# Altium footprint library WR-CIRCM12.PcbLib: 41 footprints (part 1 of 3)
Each footprint in its own frame and in the unit in brackets; x right, y up, seen from the top. Pads: shape width x height; smd on the part's side, far side on the other; paste and mask are expansions set on the pad; w line width, h text height; cw(c..) or ccw(c..) is an arc to the next point about the centre after c.
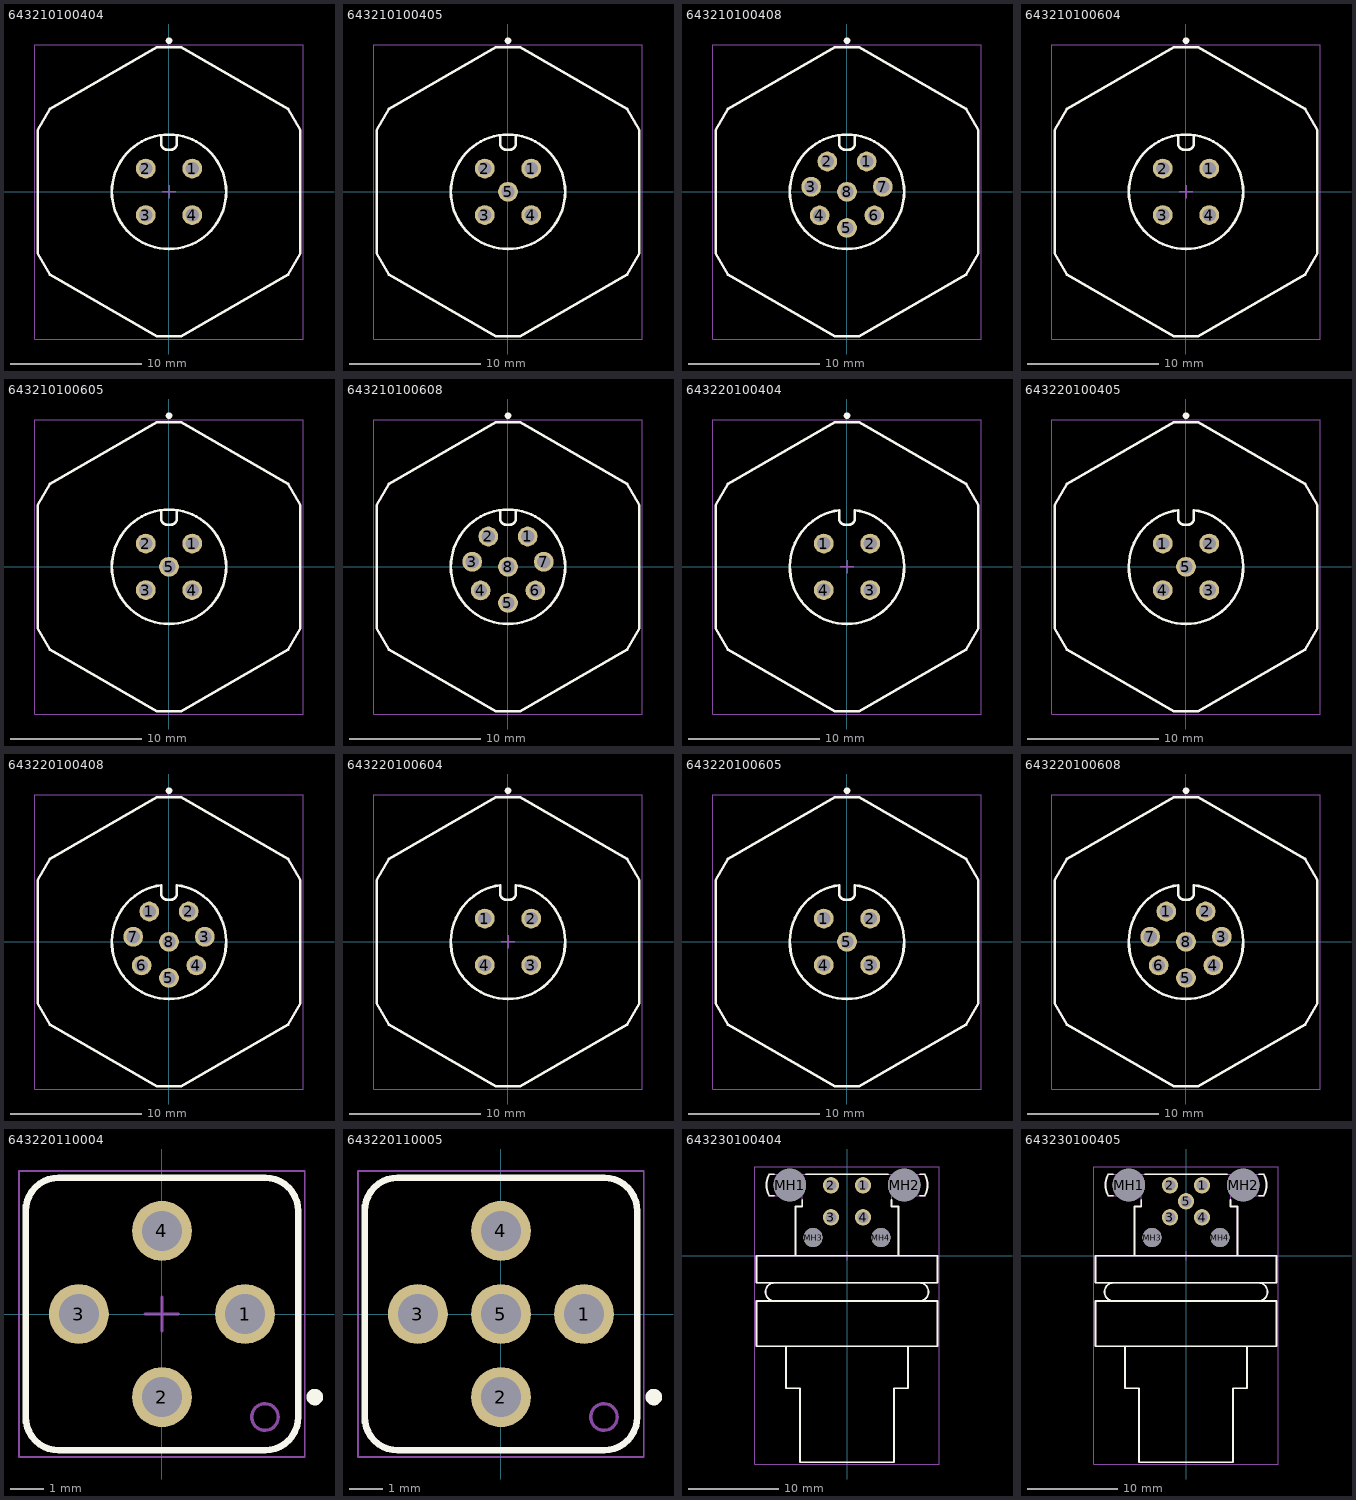
[diagram p0: the footprints below, top view; thin cyan lines are the x and y axes]

## 643210100404 [mm] "M12 Screw - Coding A -  Panel PCB"
height 22.8
pads (4):
  round 1.5 hole 1: 1(1.768,1.768) 2(-1.768,1.768) 3(-1.768,-1.768) 4(1.768,-1.768)
Top Overlay:
  circle w0.25: c0,11.5 r0.125
  circle w0.2: c0,0 r4.35
  lines w0.2: -0.945,-11 0.945,-11 ; -0.945,11 0.945,11 ; -0.94,-11 -9.05,-6.32 -10,-4.68 -10,4.68 -9.05,6.32 -0.94,11 ; -0.6,4.29 -0.6,3.69 ccw(c-0.1,3.69) -0.1,3.19 0.1,3.19 ccw(c0.1,3.69) 0.6,3.69 0.6,4.29 ; 0.94,-11 9.05,-6.32 10,-4.68 10,4.68 9.05,6.32 0.94,11
Top Assembly:
  circle w0.1: c0,0 r4.35
  lines w0.1: -0.945,-11 0.945,-11 ; -0.945,11 0.945,11 ; -0.94,-11 -9.05,-6.32 -10,-4.68 -10,4.68 -9.05,6.32 -0.94,11 ; -0.6,4.29 -0.6,3.69 ccw(c-0.1,3.69) -0.1,3.19 0.1,3.19 ccw(c0.1,3.69) 0.6,3.69 0.6,4.29 ; 0.94,-11 9.05,-6.32 10,-4.68 10,4.68 9.05,6.32 0.94,11
Top Designator:
  text ".Designator" at -3.647,-0.357 h1
Top 3D Body:
  circle w0.1: c0,0 r4.35
  lines w0.1: -0.945,-11 0.945,-11 ; -0.945,11 0.945,11 ; -0.94,-11 -9.05,-6.32 -10,-4.68 -10,4.68 -9.05,6.32 -0.94,11 ; -0.6,4.29 -0.6,3.69 ccw(c-0.1,3.69) -0.1,3.19 0.1,3.19 ccw(c0.1,3.69) 0.6,3.69 0.6,4.29 ; 0.94,-11 9.05,-6.32 10,-4.68 10,4.68 9.05,6.32 0.94,11
Top Courtyard:
  lines w0.05: -10.2,-11.2 10.2,-11.2 10.2,11.2 -10.2,11.2 -10.2,-11.2
Top Component Center:
  lines w0.1: -0.5,0 0.5,0 ; 0,-0.5 0,0.5
3D body "643210100404.stp": height 25.95, standoff -2.85, extent -10,-11.011 10,11.011

## 643210100405 [mm] "M12 Screw - Coding A -  Panel PCB"
height 22.8
pads (5):
  round 1.5 hole 1: 1(1.768,1.768) 2(-1.768,1.768) 3(-1.768,-1.768) 4(1.768,-1.768) 5(0,0)
Top Overlay:
  circle w0.25: c0,11.5 r0.125
  circle w0.2: c0,0 r4.35
  lines w0.2: -0.945,-11 0.945,-11 ; -0.945,11 0.945,11 ; -0.94,-11 -9.05,-6.32 -10,-4.68 -10,4.68 -9.05,6.32 -0.94,11 ; -0.6,4.29 -0.6,3.69 ccw(c-0.1,3.69) -0.1,3.19 0.1,3.19 ccw(c0.1,3.69) 0.6,3.69 0.6,4.29 ; 0.94,-11 9.05,-6.32 10,-4.68 10,4.68 9.05,6.32 0.94,11
Top Assembly:
  circle w0.1: c0,0 r4.35
  lines w0.1: -0.945,-11 0.945,-11 ; -0.945,11 0.945,11 ; -0.94,-11 -9.05,-6.32 -10,-4.68 -10,4.68 -9.05,6.32 -0.94,11 ; -0.6,4.29 -0.6,3.69 ccw(c-0.1,3.69) -0.1,3.19 0.1,3.19 ccw(c0.1,3.69) 0.6,3.69 0.6,4.29 ; 0.94,-11 9.05,-6.32 10,-4.68 10,4.68 9.05,6.32 0.94,11
Top Designator:
  text ".Designator" at -3.647,-0.357 h1
Top 3D Body:
  circle w0.1: c0,0 r4.35
  lines w0.1: -0.945,-11 0.945,-11 ; -0.945,11 0.945,11 ; -0.94,-11 -9.05,-6.32 -10,-4.68 -10,4.68 -9.05,6.32 -0.94,11 ; -0.6,4.29 -0.6,3.69 ccw(c-0.1,3.69) -0.1,3.19 0.1,3.19 ccw(c0.1,3.69) 0.6,3.69 0.6,4.29 ; 0.94,-11 9.05,-6.32 10,-4.68 10,4.68 9.05,6.32 0.94,11
Top Courtyard:
  lines w0.05: -10.2,-11.2 10.2,-11.2 10.2,11.2 -10.2,11.2 -10.2,-11.2
Top Component Center:
  lines w0.1: -0.5,0 0.5,0 ; 0,-0.5 0,0.5
3D body "643210100405.stp": height 25.95, standoff -2.85, extent -10,-11.011 10,11.011

## 643210100408 [mm] "M12 Screw - Coding A -  Panel PCB"
height 22.8
pads (8):
  round 1.5 hole 1: 1(1.498,2.306) 2(-1.498,2.306) 3(-2.723,0.383) 4(-2.08,-1.8) 5(0,-2.75) 6(2.08,-1.8) 7(2.723,0.383) 8(0,0)
Top Overlay:
  circle w0.2: c0,0 r4.35
  circle w0.25: c0,11.5 r0.125
  lines w0.2: -0.945,-11 0.945,-11 ; -0.945,11 0.945,11 ; -0.94,-11 -9.05,-6.32 -10,-4.68 -10,4.68 -9.05,6.32 -0.94,11 ; -0.6,4.29 -0.6,3.69 ccw(c-0.1,3.69) -0.1,3.19 0.1,3.19 ccw(c0.1,3.69) 0.6,3.69 0.6,4.29 ; 0.94,-11 9.05,-6.32 10,-4.68 10,4.68 9.05,6.32 0.94,11
Top Assembly:
  circle w0.1: c0,0 r4.35
  lines w0.1: -0.945,-11 0.945,-11 ; -0.945,11 0.945,11 ; -0.94,-11 -9.05,-6.32 -10,-4.68 -10,4.68 -9.05,6.32 -0.94,11 ; -0.6,4.29 -0.6,3.69 ccw(c-0.1,3.69) -0.1,3.19 0.1,3.19 ccw(c0.1,3.69) 0.6,3.69 0.6,4.29 ; 0.94,-11 9.05,-6.32 10,-4.68 10,4.68 9.05,6.32 0.94,11
Top Designator:
  text ".Designator" at -3.647,-0.357 h1
Top 3D Body:
  circle w0.1: c0,0 r4.35
  lines w0.1: -0.945,-11 0.945,-11 ; -0.945,11 0.945,11 ; -0.94,-11 -9.05,-6.32 -10,-4.68 -10,4.68 -9.05,6.32 -0.94,11 ; -0.6,4.29 -0.6,3.69 ccw(c-0.1,3.69) -0.1,3.19 0.1,3.19 ccw(c0.1,3.69) 0.6,3.69 0.6,4.29 ; 0.94,-11 9.05,-6.32 10,-4.68 10,4.68 9.05,6.32 0.94,11
Top Courtyard:
  lines w0.05: -10.2,-11.2 10.2,-11.2 10.2,11.2 -10.2,11.2 -10.2,-11.2
Top Component Center:
  lines w0.1: -0.5,0 0.5,0 ; 0,-0.5 0,0.5
3D body "643210100408.stp": height 25.95, standoff -2.85, extent -10,-11.011 10,11.011

## 643210100604 [mm] "M12 Screw - Coding A -  Panel PCB"
height 22.8
pads (4):
  round 1.5 hole 1: 1(1.768,1.768) 2(-1.768,1.768) 3(-1.768,-1.768) 4(1.768,-1.768)
Top Overlay:
  circle w0.25: c0,11.5 r0.125
  circle w0.2: c0,0 r4.35
  lines w0.2: -0.945,-11 0.945,-11 ; -0.945,11 0.945,11 ; -0.94,-11 -9.05,-6.32 -10,-4.68 -10,4.68 -9.05,6.32 -0.94,11 ; -0.6,4.29 -0.6,3.69 ccw(c-0.1,3.69) -0.1,3.19 0.1,3.19 ccw(c0.1,3.69) 0.6,3.69 0.6,4.29 ; 0.94,-11 9.05,-6.32 10,-4.68 10,4.68 9.05,6.32 0.94,11
Top Assembly:
  circle w0.1: c0,0 r4.35
  lines w0.1: -0.945,-11 0.945,-11 ; -0.945,11 0.945,11 ; -0.94,-11 -9.05,-6.32 -10,-4.68 -10,4.68 -9.05,6.32 -0.94,11 ; -0.6,4.29 -0.6,3.69 ccw(c-0.1,3.69) -0.1,3.19 0.1,3.19 ccw(c0.1,3.69) 0.6,3.69 0.6,4.29 ; 0.94,-11 9.05,-6.32 10,-4.68 10,4.68 9.05,6.32 0.94,11
Top Designator:
  text ".Designator" at -3.647,-0.357 h1
Top 3D Body:
  circle w0.1: c0,0 r4.35
  lines w0.1: -0.945,-11 0.945,-11 ; -0.945,11 0.945,11 ; -0.94,-11 -9.05,-6.32 -10,-4.68 -10,4.68 -9.05,6.32 -0.94,11 ; -0.6,4.29 -0.6,3.69 ccw(c-0.1,3.69) -0.1,3.19 0.1,3.19 ccw(c0.1,3.69) 0.6,3.69 0.6,4.29 ; 0.94,-11 9.05,-6.32 10,-4.68 10,4.68 9.05,6.32 0.94,11
Top Courtyard:
  lines w0.05: -10.2,-11.2 -10.2,11.2 10.2,11.2 10.2,-11.2 -10.2,-11.2
Top Component Center:
  lines w0.1: -0.5,0 0.5,0 ; 0,-0.5 0,0.5
3D body "643210100604.stp": height 25.95, standoff -2.85, extent -10.013,-11.011 10,11.011

## 643210100605 [mm] "M12 Screw - Coding A -  Panel PCB"
height 22.8
pads (5):
  round 1.5 hole 1: 1(1.768,1.768) 2(-1.768,1.768) 3(-1.768,-1.768) 4(1.768,-1.768) 5(0,0)
Top Overlay:
  circle w0.2: c0,0 r4.35
  circle w0.25: c0,11.5 r0.125
  lines w0.2: -0.945,-11 0.945,-11 ; -0.945,11 0.945,11 ; -0.94,-11 -9.05,-6.32 -10,-4.68 -10,4.68 -9.05,6.32 -0.94,11 ; -0.6,4.29 -0.6,3.69 ccw(c-0.1,3.69) -0.1,3.19 0.1,3.19 ccw(c0.1,3.69) 0.6,3.69 0.6,4.29 ; 0.94,-11 9.05,-6.32 10,-4.68 10,4.68 9.05,6.32 0.94,11
Top Assembly:
  circle w0.1: c0,0 r4.35
  lines w0.1: -0.945,-11 0.945,-11 ; -0.945,11 0.945,11 ; -0.94,-11 -9.05,-6.32 -10,-4.68 -10,4.68 -9.05,6.32 -0.94,11 ; -0.6,4.29 -0.6,3.69 ccw(c-0.1,3.69) -0.1,3.19 0.1,3.19 ccw(c0.1,3.69) 0.6,3.69 0.6,4.29 ; 0.94,-11 9.05,-6.32 10,-4.68 10,4.68 9.05,6.32 0.94,11
Top Designator:
  text ".Designator" at -3.647,-0.357 h1
Top 3D Body:
  circle w0.1: c0,0 r4.35
  lines w0.1: -0.945,-11 0.945,-11 ; -0.945,11 0.945,11 ; -0.94,-11 -9.05,-6.32 -10,-4.68 -10,4.68 -9.05,6.32 -0.94,11 ; -0.6,4.29 -0.6,3.69 ccw(c-0.1,3.69) -0.1,3.19 0.1,3.19 ccw(c0.1,3.69) 0.6,3.69 0.6,4.29 ; 0.94,-11 9.05,-6.32 10,-4.68 10,4.68 9.05,6.32 0.94,11
Top Courtyard:
  lines w0.05: -10.2,-11.2 -10.2,11.2 10.2,11.2 10.2,-11.2 -10.2,-11.2
Top Component Center:
  lines w0.1: -0.5,0 0.5,0 ; 0,-0.5 0,0.5
3D body "643210100605.stp": height 25.95, standoff -2.85, extent -10.013,-11.011 10,11.011

## 643210100608 [mm] "M12 Screw - Coding A -  Panel PCB"
height 22.8
pads (8):
  round 1.5 hole 1: 1(1.498,2.306) 2(-1.498,2.306) 3(-2.723,0.383) 4(-2.08,-1.8) 5(0,-2.75) 6(2.08,-1.8) 7(2.723,0.383) 8(0,0)
Top Overlay:
  circle w0.25: c0,11.5 r0.125
  circle w0.2: c0,0 r4.35
  lines w0.2: -0.945,-11 0.945,-11 ; -0.945,11 0.945,11 ; -0.94,-11 -9.05,-6.32 -10,-4.68 -10,4.68 -9.05,6.32 -0.94,11 ; -0.6,4.29 -0.6,3.69 ccw(c-0.1,3.69) -0.1,3.19 0.1,3.19 ccw(c0.1,3.69) 0.6,3.69 0.6,4.29 ; 0.94,-11 9.05,-6.32 10,-4.68 10,4.68 9.05,6.32 0.94,11
Top Assembly:
  circle w0.1: c0,0 r4.35
  lines w0.1: -0.945,-11 0.945,-11 ; -0.945,11 0.945,11 ; -0.94,-11 -9.05,-6.32 -10,-4.68 -10,4.68 -9.05,6.32 -0.94,11 ; -0.6,4.29 -0.6,3.69 ccw(c-0.1,3.69) -0.1,3.19 0.1,3.19 ccw(c0.1,3.69) 0.6,3.69 0.6,4.29 ; 0.94,-11 9.05,-6.32 10,-4.68 10,4.68 9.05,6.32 0.94,11
Top Designator:
  text ".Designator" at -3.647,-0.357 h1
Top 3D Body:
  circle w0.1: c0,0 r4.35
  lines w0.1: -0.945,-11 0.945,-11 ; -0.945,11 0.945,11 ; -0.94,-11 -9.05,-6.32 -10,-4.68 -10,4.68 -9.05,6.32 -0.94,11 ; -0.6,4.29 -0.6,3.69 ccw(c-0.1,3.69) -0.1,3.19 0.1,3.19 ccw(c0.1,3.69) 0.6,3.69 0.6,4.29 ; 0.94,-11 9.05,-6.32 10,-4.68 10,4.68 9.05,6.32 0.94,11
Top Courtyard:
  lines w0.05: -10.2,-11.2 10.2,-11.2 10.2,11.2 -10.2,11.2 -10.2,-11.2
Top Component Center:
  lines w0.1: -0.5,0 0.5,0 ; 0,-0.5 0,0.5
3D body "643210100608.stp": height 25.95, standoff -2.85, extent -10.013,-11.011 10,11.011

## 643220100404 [mm] "Serie M Female Plastic Straight Front Simple"
height 22.8
pads (4):
  round 1.5 hole 1: 1(-1.768,1.768) 2(1.768,1.768) 3(1.768,-1.768) 4(-1.768,-1.768)
Top Overlay:
  circle w0.25: c0,11.5 r0.125
  lines w0.2: -0.945,-11 0.945,-11 ; -0.945,11 0.945,11 ; -0.94,-11 -9.05,-6.32 -10,-4.68 -10,4.68 -9.05,6.32 -0.94,11 ; -0.603,4.308 ccw(c0,0) 0.603,4.308 ; -0.6,4.29 -0.6,3.69 ccw(c-0.1,3.69) -0.1,3.19 0.1,3.19 ccw(c0.1,3.69) 0.6,3.69 0.6,4.29 ; 0.94,-11 9.05,-6.32 10,-4.68 10,4.68 9.05,6.32 0.94,11
Top Assembly:
  lines w0.1: -0.945,-11 0.945,-11 ; -0.945,11 0.945,11 ; -0.94,-11 -9.05,-6.32 -10,-4.68 -10,4.68 -9.05,6.32 -0.94,11 ; -0.603,4.308 ccw(c0,0) 0.603,4.308 ; -0.6,4.29 -0.6,3.69 ccw(c-0.1,3.69) -0.1,3.19 0.1,3.19 ccw(c0.1,3.69) 0.6,3.69 0.6,4.29 ; 0.94,-11 9.05,-6.32 10,-4.68 10,4.68 9.05,6.32 0.94,11
Top Designator:
  text ".Designator" at -3.647,-0.357 h1
Top 3D Body:
  lines w0.1: -0.945,-11 0.945,-11 ; -0.945,11 0.945,11 ; -0.94,-11 -9.05,-6.32 -10,-4.68 -10,4.68 -9.05,6.32 -0.94,11 ; -0.603,4.308 ccw(c0,0) 0.603,4.308 ; -0.6,4.29 -0.6,3.69 ccw(c-0.1,3.69) -0.1,3.19 0.1,3.19 ccw(c0.1,3.69) 0.6,3.69 0.6,4.29 ; 0.94,-11 9.05,-6.32 10,-4.68 10,4.68 9.05,6.32 0.94,11
Top Courtyard:
  lines w0.05: -10.2,-11.2 10.2,-11.2 10.2,11.2 -10.2,11.2 -10.2,-11.2
Top Component Center:
  lines w0.1: -0.5,0 0.5,0 ; 0,-0.5 0,0.5
3D body "643220100404.stp": height 23.22, standoff -2.87, extent -10,-10.995 10,10.995

## 643220100405 [mm] "Serie M Female Plastic Straight Front Simple"
height 22.8
pads (5):
  round 1.5 hole 1: 1(-1.768,1.768) 2(1.768,1.768) 3(1.768,-1.768) 4(-1.768,-1.768) 5(0,0)
Top Overlay:
  circle w0.25: c0,11.5 r0.125
  lines w0.2: -0.945,-11 0.945,-11 ; -0.945,11 0.945,11 ; -0.94,-11 -9.05,-6.32 -10,-4.68 -10,4.68 -9.05,6.32 -0.94,11 ; -0.603,4.308 ccw(c0,0) 0.603,4.308 ; -0.6,4.29 -0.6,3.69 ccw(c-0.1,3.69) -0.1,3.19 0.1,3.19 ccw(c0.1,3.69) 0.6,3.69 0.6,4.29 ; 0.94,-11 9.05,-6.32 10,-4.68 10,4.68 9.05,6.32 0.94,11
Top Assembly:
  lines w0.1: -0.945,-11 0.945,-11 ; -0.945,11 0.945,11 ; -0.94,-11 -9.05,-6.32 -10,-4.68 -10,4.68 -9.05,6.32 -0.94,11 ; -0.603,4.308 ccw(c0,0) 0.647,4.302 ; -0.6,4.29 -0.6,3.69 ccw(c-0.1,3.69) -0.1,3.19 0.1,3.19 ccw(c0.1,3.69) 0.6,3.69 0.6,4.29 ; 0.94,-11 9.05,-6.32 10,-4.68 10,4.68 9.05,6.32 0.94,11
Top Designator:
  text ".Designator" at -3.647,-0.357 h1
Top 3D Body:
  lines w0.1: -0.945,-11 0.945,-11 ; -0.945,11 0.945,11 ; -0.94,-11 -9.05,-6.32 -10,-4.68 -10,4.68 -9.05,6.32 -0.94,11 ; -0.603,4.308 ccw(c0,0) 0.647,4.302 ; -0.6,4.29 -0.6,3.69 ccw(c-0.1,3.69) -0.1,3.19 0.1,3.19 ccw(c0.1,3.69) 0.6,3.69 0.6,4.29 ; 0.94,-11 9.05,-6.32 10,-4.68 10,4.68 9.05,6.32 0.94,11
Top Courtyard:
  lines w0.05: -10.2,-11.2 10.2,-11.2 10.2,11.2 -10.2,11.2 -10.2,-11.2
Top Component Center:
  lines w0.1: -0.5,0 0.5,0 ; 0,-0.5 0,0.5
3D body "643220100405.stp": height 23.22, standoff -2.78, extent -10,-10.995 10,10.995

## 643220100408 [mm] "Serie M Female Plastic Straight Front Simple"
height 22.8
pads (8):
  round 1.5 hole 1: 1(-1.498,2.306) 2(1.498,2.306) 3(2.723,0.383) 4(2.08,-1.8) 5(0,-2.75) 6(-2.08,-1.8) 7(-2.723,0.383) 8(0,0)
Top Overlay:
  circle w0.25: c0,11.5 r0.125
  lines w0.2: -0.945,-11 0.945,-11 ; -0.945,11 0.945,11 ; -0.94,-11 -9.05,-6.32 -10,-4.68 -10,4.68 -9.05,6.32 -0.94,11 ; -0.603,4.308 ccw(c0,0) 0.603,4.308 ; -0.6,4.29 -0.6,3.69 ccw(c-0.1,3.69) -0.1,3.19 0.1,3.19 ccw(c0.1,3.69) 0.6,3.69 0.6,4.29 ; 0.94,-11 9.05,-6.32 10,-4.68 10,4.68 9.05,6.32 0.94,11
Top Assembly:
  lines w0.1: -0.945,-11 0.945,-11 ; -0.945,11 0.945,11 ; -0.94,-11 -9.05,-6.32 -10,-4.68 -10,4.68 -9.05,6.32 -0.94,11 ; -0.603,4.308 ccw(c0,0) 0.647,4.302 ; -0.6,4.29 -0.6,3.69 ccw(c-0.1,3.69) -0.1,3.19 0.1,3.19 ccw(c0.1,3.69) 0.6,3.69 0.6,4.29 ; 0.94,-11 9.05,-6.32 10,-4.68 10,4.68 9.05,6.32 0.94,11
Top Designator:
  text ".Designator" at -3.647,-0.357 h1
Top 3D Body:
  lines w0.1: -0.945,-11 0.945,-11 ; -0.945,11 0.945,11 ; -0.94,-11 -9.05,-6.32 -10,-4.68 -10,4.68 -9.05,6.32 -0.94,11 ; -0.603,4.308 ccw(c0,0) 0.647,4.302 ; -0.6,4.29 -0.6,3.69 ccw(c-0.1,3.69) -0.1,3.19 0.1,3.19 ccw(c0.1,3.69) 0.6,3.69 0.6,4.29 ; 0.94,-11 9.05,-6.32 10,-4.68 10,4.68 9.05,6.32 0.94,11
Top Courtyard:
  lines w0.05: -10.2,-11.2 -10.2,11.2 10.2,11.2 10.2,-11.2 -10.2,-11.2
Top Component Center:
  lines w0.1: -0.5,0 0.5,0 ; 0,-0.5 0,0.5
3D body "643220100408.stp": height 23.22, standoff -2.78, extent -10,-10.995 10,10.995

## 643220100604 [mm] "Serie M Female Plastic Straight Front Simple  PG9"
height 22.8
pads (4):
  round 1.5 hole 1: 1(-1.768,1.768) 2(1.768,1.768) 3(1.768,-1.768) 4(-1.768,-1.768)
Top Overlay:
  circle w0.25: c0,11.5 r0.125
  lines w0.2: -0.945,-11 0.945,-11 ; -0.945,11 0.945,11 ; -0.94,-11 -9.05,-6.32 -10,-4.68 -10,4.68 -9.05,6.32 -0.94,11 ; -0.603,4.308 ccw(c0,0) 0.603,4.308 ; -0.6,4.29 -0.6,3.69 ccw(c-0.1,3.69) -0.1,3.19 0.1,3.19 ccw(c0.1,3.69) 0.6,3.69 0.6,4.29 ; 0.94,-11 9.05,-6.32 10,-4.68 10,4.68 9.05,6.32 0.94,11
Top Assembly:
  lines w0.1: -0.945,-11 0.945,-11 ; -0.945,11 0.945,11 ; -0.94,-11 -9.05,-6.32 -10,-4.68 -10,4.68 -9.05,6.32 -0.94,11 ; -0.603,4.308 ccw(c0,0) 0.603,4.308 ; -0.6,4.29 -0.6,3.69 ccw(c-0.1,3.69) -0.1,3.19 0.1,3.19 ccw(c0.1,3.69) 0.6,3.69 0.6,4.29 ; 0.94,-11 9.05,-6.32 10,-4.68 10,4.68 9.05,6.32 0.94,11
Top Designator:
  text ".Designator" at -3.647,-0.357 h1
Top 3D Body:
  lines w0.1: -0.945,-11 0.945,-11 ; -0.945,11 0.945,11 ; -0.94,-11 -9.05,-6.32 -10,-4.68 -10,4.68 -9.05,6.32 -0.94,11 ; -0.603,4.308 ccw(c0,0) 0.603,4.308 ; -0.6,4.29 -0.6,3.69 ccw(c-0.1,3.69) -0.1,3.19 0.1,3.19 ccw(c0.1,3.69) 0.6,3.69 0.6,4.29 ; 0.94,-11 9.05,-6.32 10,-4.68 10,4.68 9.05,6.32 0.94,11
Top Courtyard:
  lines w0.05: -10.2,-11.2 10.2,-11.2 10.2,11.2 -10.2,11.2 -10.2,-11.2
Top Component Center:
  lines w0.1: -0.5,0 0.5,0 ; 0,-0.5 0,0.5
3D body "643220100604.stp": height 23.22, standoff -2.78, extent -10,-10.995 10,10.995

## 643220100605 [mm] "Serie M Female Plastic Straight Front Simple  PG9"
height 22.8
pads (5):
  round 1.5 hole 1: 1(-1.768,1.768) 2(1.768,1.768) 3(1.768,-1.768) 4(-1.768,-1.768) 5(0,0)
Top Overlay:
  circle w0.25: c0,11.5 r0.125
  lines w0.2: -0.945,-11 0.945,-11 ; -0.945,11 0.945,11 ; -0.94,-11 -9.05,-6.32 -10,-4.68 -10,4.68 -9.05,6.32 -0.94,11 ; -0.603,4.308 ccw(c0,0) 0.603,4.308 ; -0.6,4.29 -0.6,3.69 ccw(c-0.1,3.69) -0.1,3.19 0.1,3.19 ccw(c0.1,3.69) 0.6,3.69 0.6,4.29 ; 0.94,-11 9.05,-6.32 10,-4.68 10,4.68 9.05,6.32 0.94,11
Top Assembly:
  lines w0.1: -0.945,-11 0.945,-11 ; -0.945,11 0.945,11 ; -0.94,-11 -9.05,-6.32 -10,-4.68 -10,4.68 -9.05,6.32 -0.94,11 ; -0.603,4.308 ccw(c0,0) 0.647,4.302 ; -0.6,4.29 -0.6,3.69 ccw(c-0.1,3.69) -0.1,3.19 0.1,3.19 ccw(c0.1,3.69) 0.6,3.69 0.6,4.29 ; 0.94,-11 9.05,-6.32 10,-4.68 10,4.68 9.05,6.32 0.94,11
Top Designator:
  text ".Designator" at -3.647,-0.357 h1
Top 3D Body:
  lines w0.1: -0.945,-11 0.945,-11 ; -0.945,11 0.945,11 ; -0.94,-11 -9.05,-6.32 -10,-4.68 -10,4.68 -9.05,6.32 -0.94,11 ; -0.603,4.308 ccw(c0,0) 0.647,4.302 ; -0.6,4.29 -0.6,3.69 ccw(c-0.1,3.69) -0.1,3.19 0.1,3.19 ccw(c0.1,3.69) 0.6,3.69 0.6,4.29 ; 0.94,-11 9.05,-6.32 10,-4.68 10,4.68 9.05,6.32 0.94,11
Top Courtyard:
  lines w0.05: -10.2,-11.2 10.2,-11.2 10.2,11.2 -10.2,11.2 -10.2,-11.2
Top Component Center:
  lines w0.1: -0.5,0 0.5,0 ; 0,-0.5 0,0.5
3D body "643220100605.stp": height 23.22, standoff -2.78, extent -10,-10.995 10,10.995

## 643220100608 [mm] "Serie M Female Plastic Straight Front Simple  PG9"
height 22.8
pads (8):
  round 1.5 hole 1: 1(-1.498,2.306) 2(1.498,2.306) 3(2.723,0.383) 4(2.08,-1.8) 5(0,-2.75) 6(-2.08,-1.8) 7(-2.723,0.383) 8(0,0)
Top Overlay:
  circle w0.25: c0,11.5 r0.125
  lines w0.2: -0.945,-11 0.945,-11 ; -0.945,11 0.945,11 ; -0.94,-11 -9.05,-6.32 -10,-4.68 -10,4.68 -9.05,6.32 -0.94,11 ; -0.603,4.308 ccw(c0,0) 0.603,4.308 ; -0.6,4.29 -0.6,3.69 ccw(c-0.1,3.69) -0.1,3.19 0.1,3.19 ccw(c0.1,3.69) 0.6,3.69 0.6,4.29 ; 0.94,-11 9.05,-6.32 10,-4.68 10,4.68 9.05,6.32 0.94,11
Top Assembly:
  lines w0.1: -0.945,-11 0.945,-11 ; -0.945,11 0.945,11 ; -0.94,-11 -9.05,-6.32 -10,-4.68 -10,4.68 -9.05,6.32 -0.94,11 ; -0.603,4.308 ccw(c0,0) 0.647,4.302 ; -0.6,4.29 -0.6,3.69 ccw(c-0.1,3.69) -0.1,3.19 0.1,3.19 ccw(c0.1,3.69) 0.6,3.69 0.6,4.29 ; 0.94,-11 9.05,-6.32 10,-4.68 10,4.68 9.05,6.32 0.94,11
Top Designator:
  text ".Designator" at -3.647,-0.357 h1
Top 3D Body:
  lines w0.1: -0.945,-11 0.945,-11 ; -0.945,11 0.945,11 ; -0.94,-11 -9.05,-6.32 -10,-4.68 -10,4.68 -9.05,6.32 -0.94,11 ; -0.603,4.308 ccw(c0,0) 0.647,4.302 ; -0.6,4.29 -0.6,3.69 ccw(c-0.1,3.69) -0.1,3.19 0.1,3.19 ccw(c0.1,3.69) 0.6,3.69 0.6,4.29 ; 0.94,-11 9.05,-6.32 10,-4.68 10,4.68 9.05,6.32 0.94,11
Top Courtyard:
  lines w0.05: -10.2,-11.2 10.2,-11.2 10.2,11.2 -10.2,11.2 -10.2,-11.2
Top Component Center:
  lines w0.1: -0.5,0 0.5,0 ; 0,-0.5 0,0.5
3D body "643220100608.stp": height 23.22, standoff -2.78, extent -10,-10.995 10,10.995

## 643220110004 [mm] "WR-CIRCM12 A Socket PCB Shieldingless, 4p"
height 14.6
pads (4):
  round 1.8 hole 1.2: 1(2.5,0) 2(0,-2.5) 3(-2.5,0) 4(0,2.5)
Top Overlay:
  circle w0.25: c4.6,-2.5 r0.125
  lines w0.2: -4.1,-3.1 ccw(c-3.1,-3.1) -3.1,-4.1 3.1,-4.1 ccw(c3.1,-3.1) 4.1,-3.1 4.1,3.1 ccw(c3.1,3.1) 3.1,4.1 -3.1,4.1 ccw(c-3.1,3.1) -4.1,3.1 -4.1,-3.1
Top Assembly:
  circle w0.1: c3.1,-3.1 r0.4
  lines w0.1: -4.1,-3.1 ccw(c-3.1,-3.1) -3.1,-4.1 3.1,-4.1 ccw(c3.1,-3.1) 4.1,-3.1 4.1,3.1 ccw(c3.1,3.1) 3.1,4.1 -3.1,4.1 ccw(c-3.1,3.1) -4.1,3.1 -4.1,-3.1
Top Designator:
  text ".Designator" at -3.647,-0.357 h1
Top 3D Body:
  circle w0.1: c3.1,-3.1 r0.4
  lines w0.1: -4.1,-3.1 ccw(c-3.1,-3.1) -3.1,-4.1 3.1,-4.1 ccw(c3.1,-3.1) 4.1,-3.1 4.1,3.1 ccw(c3.1,3.1) 3.1,4.1 -3.1,4.1 ccw(c-3.1,3.1) -4.1,3.1 -4.1,-3.1
Top Courtyard:
  lines w0.05: -4.3,-4.3 4.3,-4.3 4.3,4.3 -4.3,4.3 -4.3,-4.3
Top Component Center:
  lines w0.1: -0.5,0 0.5,0 ; 0,-0.5 0,0.5
3D body "643220110004.stp": height 14.65, standoff -3.05, extent -4.1,-4.1 4.1,4.1

## 643220110005 [mm] "WR-CIRCM12 A Socket PCB Shieldingless, 5p"
height 14.6
pads (5):
  round 1.8 hole 1.2: 1(2.5,0) 2(0,-2.5) 3(-2.5,0) 4(0,2.5) 5(0,0)
Top Overlay:
  circle w0.25: c4.6,-2.5 r0.125
  lines w0.2: -4.1,-3.1 ccw(c-3.1,-3.1) -3.1,-4.1 3.1,-4.1 ccw(c3.1,-3.1) 4.1,-3.1 4.1,3.1 ccw(c3.1,3.1) 3.1,4.1 -3.1,4.1 ccw(c-3.1,3.1) -4.1,3.1 -4.1,-3.1
Top Assembly:
  circle w0.1: c3.1,-3.1 r0.4
  lines w0.1: -4.1,-3.1 ccw(c-3.1,-3.1) -3.1,-4.1 3.1,-4.1 ccw(c3.1,-3.1) 4.1,-3.1 4.1,3.1 ccw(c3.1,3.1) 3.1,4.1 -3.1,4.1 ccw(c-3.1,3.1) -4.1,3.1 -4.1,-3.1
Top Designator:
  text ".Designator" at -3.647,-0.357 h1
Top 3D Body:
  circle w0.1: c3.1,-3.1 r0.4
  lines w0.1: -4.1,-3.1 ccw(c-3.1,-3.1) -3.1,-4.1 3.1,-4.1 ccw(c3.1,-3.1) 4.1,-3.1 4.1,3.1 ccw(c3.1,3.1) 3.1,4.1 -3.1,4.1 ccw(c-3.1,3.1) -4.1,3.1 -4.1,-3.1
Top Courtyard:
  lines w0.05: -4.3,-4.3 -4.3,4.3 4.3,4.3 4.3,-4.3 -4.3,-4.3
Top Component Center:
  lines w0.1: -0.5,0 0.5,0 ; 0,-0.5 0,0.5
3D body "643220110005.stp": height 14.65, standoff -3.05, extent -4.1,-4.1 4.1,4.1

## 643230100404 [mm] "Serie M Male Plastic Angled Front Double"
height 22
pads (8):
  round 1.8 hole 1.2: 1(1.768,7.768) 2(-1.768,7.768) 3(-1.768,4.232) 4(1.768,4.232)
  round 3.6 hole 3.6 unplated: MH1(-6.3,7.8) MH2(6.3,7.8)
  round 2.1 hole 2.1 unplated: MH3(-3.75,2) MH4(3.75,2)
Top Overlay:
  lines w0.2: -8.064,6.606 -8.564,6.606 cw(c-6.575,7.8) -8.561,8.999 -8.061,8.999 ; -8,-5 cw(c-8,-4) -8,-3 ; -6.75,-10 -6.75,-14.63 -5.185,-14.63 -5.185,-22.8 ; -6.3,7.8 -5.8,7.8 ; -5.68,0 -5.68,5.43 -4.93,5.43 -4.93,6.13 ; -5.185,-22.8 5.185,-22.8 ; -4.539,8.999 4.539,8.999 ; 4.93,6.13 4.93,5.43 5.68,5.43 5.68,0 ; 5.186,-22.8 5.186,-14.63 6.75,-14.63 6.75,-10 ; 8,-5 ccw(c8,-4) 8,-3 ; 8.061,8.999 8.561,8.999 cw(c6.575,7.8) 8.564,6.606 8.064,6.606 ; 9.9,-10 -10,-10 -10,-5 10,-5 10,-10 ; -10,-3 10,-3 10,0 -10,0 -10,-3
Assembly Notes:
  lines w0.2: -10,0 10,0
  text "PCB Edge" at -3.297,-1.633 h1
Top Assembly:
  lines w0.1: -8.564,6.6 -4.93,6.6 -4.93,5.43 -5.68,5.43 -5.68,0 ; -8.564,6.606 cw(c-6.575,7.8) -8.561,8.999 ; -8.561,9 8.561,9 ; -8,-5 cw(c-8,-4) -8,-3 ; -6.75,-10 -6.75,-14.63 -5.185,-14.63 -5.185,-22.8 ; -5.185,-22.8 5.185,-22.8 ; 5.186,-22.8 5.186,-14.63 6.75,-14.63 6.75,-10 ; 5.68,0 5.68,5.43 4.93,5.43 4.93,6.6 8.564,6.6 ; 8,-5 ccw(c8,-4) 8,-3 ; 8.561,8.999 cw(c6.575,7.8) 8.564,6.606 ; 9.9,-10 -10,-10 -10,-5 10,-5 10,-10 ; -10,-3 10,-3 10,0 -10,0 -10,-3
Top Designator:
  text ".Designator" at -3.647,5.643 h1
Top 3D Body:
  lines w0.1: -8.564,6.6 -4.93,6.6 -4.93,5.43 -5.68,5.43 -5.68,0 ; -8.564,6.606 cw(c-6.575,7.8) -8.561,8.999 ; -8.561,9 8.561,9 ; -8,-5 cw(c-8,-4) -8,-3 ; -6.75,-10 -6.75,-14.63 -5.185,-14.63 -5.185,-22.8 ; -5.185,-22.8 5.185,-22.8 ; 5.186,-22.8 5.186,-14.63 6.75,-14.63 6.75,-10 ; 5.68,0 5.68,5.43 4.93,5.43 4.93,6.6 8.564,6.6 ; 8,-5 ccw(c8,-4) 8,-3 ; 8.561,8.999 cw(c6.575,7.8) 8.564,6.606 ; 9.9,-10 -10,-10 -10,-5 10,-5 10,-10 ; -10,-3 -10,0 10,0 10,-3 -10,-3
Top Courtyard:
  lines w0.05: -10.2,-23 -10.2,9.8 10.2,9.8 10.2,-23 -10.2,-23
Top Component Center:
  lines w0.1: -0.5,0 0.5,0 ; 0,-0.5 0,0.5
3D body "643230100404.stp": height 23.1, standoff -3, extent -10,-22.8 10,9

## 643230100405 [mm] "Serie M Male Plastic Angled Front Double"
height 22
pads (9):
  round 1.8 hole 1.2: 1(1.768,7.768) 2(-1.768,7.768) 3(-1.768,4.232) 4(1.768,4.232) 5(0,6)
  round 3.6 hole 3.6 unplated: MH1(-6.3,7.8) MH2(6.3,7.8)
  round 2.1 hole 2.1 unplated: MH3(-3.75,2) MH4(3.75,2)
Top Overlay:
  lines w0.2: -8.064,6.606 -8.564,6.606 cw(c-6.575,7.8) -8.561,8.999 -8.061,8.999 ; -8,-5 cw(c-8,-4) -8,-3 ; -6.75,-10 -6.75,-14.63 -5.185,-14.63 -5.185,-22.8 ; -6.3,7.8 -5.8,7.8 ; -5.68,0 -5.68,5.43 -4.93,5.43 -4.93,6.13 ; -5.185,-22.8 5.185,-22.8 ; -4.539,8.999 4.539,8.999 ; 4.93,6.13 4.93,5.43 5.68,5.43 5.68,0 ; 5.186,-22.8 5.186,-14.63 6.75,-14.63 6.75,-10 ; 8,-5 ccw(c8,-4) 8,-3 ; 8.061,8.999 8.561,8.999 cw(c6.575,7.8) 8.564,6.606 8.064,6.606 ; 9.9,-10 -10,-10 -10,-5 10,-5 10,-10 ; -10,-3 10,-3 10,0 -10,0 -10,-3
Assembly Notes:
  lines w0.2: -10,0 10,0
  text "PCB Edge" at -3.297,-1.633 h1
Top Assembly:
  lines w0.1: -8.564,6.6 -4.93,6.6 -4.93,5.43 -5.68,5.43 -5.68,0 ; -8.564,6.606 cw(c-6.575,7.8) -8.561,8.999 ; -8.561,9 8.561,9 ; -8,-5 cw(c-8,-4) -8,-3 ; -6.75,-10 -6.75,-14.63 -5.185,-14.63 -5.185,-22.8 ; -5.185,-22.8 5.185,-22.8 ; 5.186,-22.8 5.186,-14.63 6.75,-14.63 6.75,-10 ; 5.68,0 5.68,5.43 4.93,5.43 4.93,6.6 8.564,6.6 ; 8,-5 ccw(c8,-4) 8,-3 ; 8.561,8.999 cw(c6.575,7.8) 8.564,6.606 ; 9.9,-10 -10,-10 -10,-5 10,-5 10,-10 ; -10,-3 10,-3 10,0 -10,0 -10,-3
Top Designator:
  text ".Designator" at -3.647,5.643 h1
Top 3D Body:
  lines w0.1: -8.564,6.6 -4.93,6.6 -4.93,5.43 -5.68,5.43 -5.68,0 ; -8.564,6.606 cw(c-6.575,7.8) -8.561,8.999 ; -8.561,9 8.561,9 ; -8,-5 cw(c-8,-4) -8,-3 ; -6.75,-10 -6.75,-14.63 -5.185,-14.63 -5.185,-22.8 ; -5.185,-22.8 5.185,-22.8 ; 5.186,-22.8 5.186,-14.63 6.75,-14.63 6.75,-10 ; 5.68,0 5.68,5.43 4.93,5.43 4.93,6.6 8.564,6.6 ; 8,-5 ccw(c8,-4) 8,-3 ; 8.561,8.999 cw(c6.575,7.8) 8.564,6.606 ; 9.9,-10 -10,-10 -10,-5 10,-5 10,-10 ; -10,-3 -10,0 10,0 10,-3 -10,-3
Top Courtyard:
  lines w0.05: -10.2,-23 -10.2,9.8 10.2,9.8 10.2,-23 -10.2,-23
Top Component Center:
  lines w0.1: -0.5,0 0.5,0 ; 0,-0.5 0,0.5
3D body "643230100405.stp": height 23.1, standoff -3, extent -10,-22.8 10,9